# EAGLE library part BREAKAWAY_2X5_SMD_2.54 (library EW_Connectors)
SMT breakaway header 2x5 position 2.54mm pitch
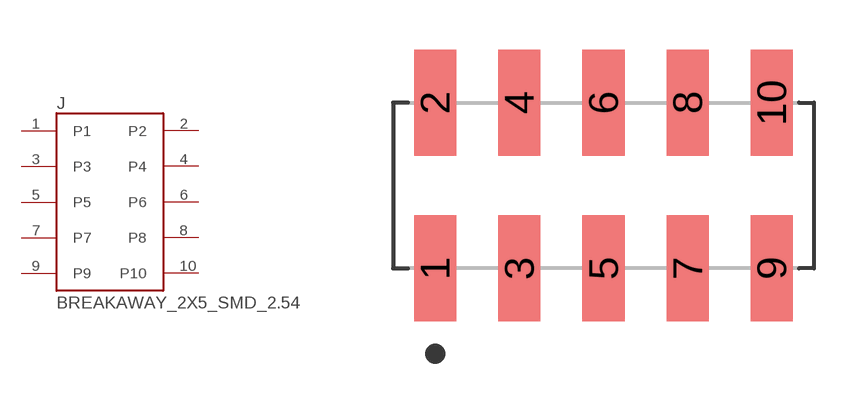
[diagram p0: symbol with the pads of SMD_2.54_2X5; footprint SMD_2.54_2X5]

Designator prefix J

## BREAKAWAY_2X5_SMD_2.54  [SMD_2.54_2X5]
1  P1  pas
2  P2  pas
3  P3  pas
4  P4  pas
5  P5  pas
6  P6  pas
7  P7  pas
8  P8  pas
9  P9  pas
10  P10  pas

## Footprint SMD_2.54_2X5 (pad centres in mm)
smd 1.27 x 3.2: 1 -5.08,-2.5; 2 -5.08,2.5; 3 -2.54,-2.5; 4 -2.54,2.5; 5 0,-2.5; 6 0,2.5; 7 2.54,-2.5; 8 2.54,2.5; 9 5.08,-2.5; 10 5.08,2.5